# Altium footprint library m.PcbLib: 55 footprints (part 4 of 4)
Each footprint in its own frame and in the unit in brackets; x right, y up, seen from the top. Pads: shape width x height; smd on the part's side, far side on the other; paste and mask are expansions set on the pad; w line width, h text height; cw(c..) or ccw(c..) is an arc to the next point about the centre after c.
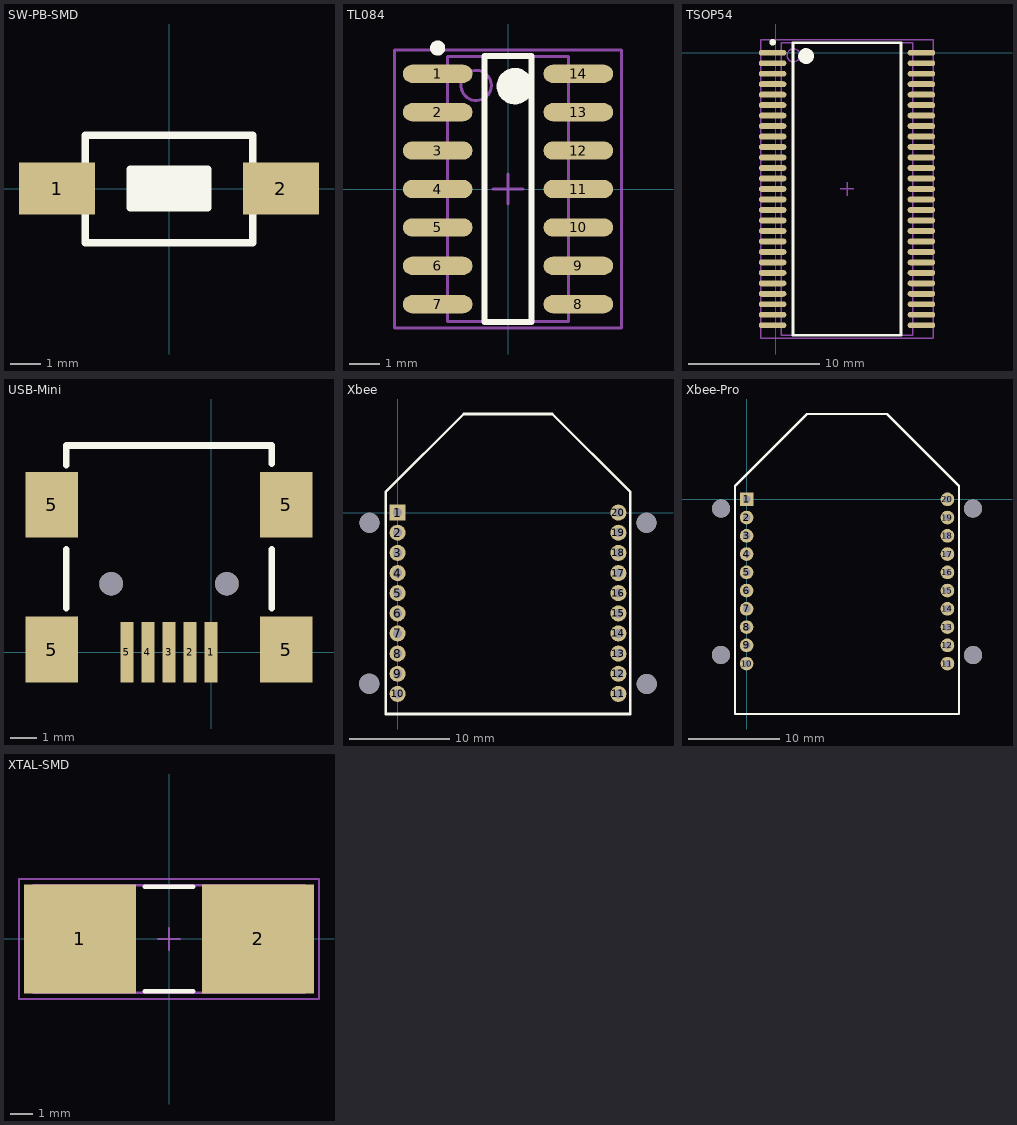
[diagram p3: the footprints below, top view; thin cyan lines are the x and y axes]

## SW-PB-SMD [mm]
pads (2):
  rect 2.5x1.7 smd: 1(-3.683,0) 2(3.683,0)
Top Overlay:
  lines w0.254: -2.75,-1.778 2.75,-1.778 2.75,1.722 ; -2.75,-1.75 -2.75,1.75 2.75,1.75 ; -1.143,-0.508 1.143,-0.508 ; -1.143,-0.254 1.143,-0.254 ; -1.143,0 1.143,0 ; -1.143,0.127 1.27,0.127 ; -1.143,0.381 1.143,0.381 ; -1.27,-0.635 -1.27,0.635 1.27,0.635 1.27,-0.635 -1.27,-0.635

## TL084 [mm] "SOP, 14-Leads, Body 8.8x4.0mm (max), Pitch 1.27mm, IPC Medium Density"
height 2.65
pads (14):
  oval 2.3x0.6 smd: 1(-2.325,3.81) 2(-2.325,2.54) 3(-2.325,1.27) 4(-2.325,0) 5(-2.325,-1.27) 6(-2.325,-2.54) 7(-2.325,-3.81) 8(2.325,-3.81) 9(2.325,-2.54) 10(2.325,-1.27) 11(2.325,0) 12(2.325,1.27) 13(2.325,2.54) 14(2.325,3.81)
Top Overlay:
  circle w0.6: c0.225,3.4 r0.3
  circle w0.25: c-2.325,4.66 r0.125
  lines w0.2: -0.775,-4.4 0.775,-4.4 0.775,4.4 -0.775,4.4 -0.775,-4.4
Mechanical 13:
  circle w0.1: c-1.05,3.425 r0.5
  lines w0.1: -2,-4.375 2,-4.375 2,4.375 -2,4.375 -2,-4.375
Mechanical 15:
  lines w0.1: -0.5,0 0.5,0 ; 0,-0.5 0,0.5 ; -3.75,-4.6 3.75,-4.6 3.75,4.6 -3.75,4.6 -3.75,-4.6
3D body: height 2.65, standoff 0.1, extent -2,-4.375 2,4.375

## TSOP54 [mm] "TSOP, 54-Leads, Body 22.3x10.1mm (max), Pitch 0.80mm, IPC Medium Density"
height 1.5
pads (54):
  oval 2.1x0.45 smd: 1(-0.254,0) 2(-0.254,-0.8) 3(-0.254,-1.6) 4(-0.254,-2.4) 5(-0.254,-3.2) 6(-0.254,-4) 7(-0.254,-4.8) 8(-0.254,-5.6) 9(-0.254,-6.4) 10(-0.254,-7.2) 11(-0.254,-8) 12(-0.254,-8.8) 13(-0.254,-9.6) 14(-0.254,-10.4) 15(-0.254,-11.2) 16(-0.254,-12) 17(-0.254,-12.8) 18(-0.254,-13.6) 19(-0.254,-14.4) 20(-0.254,-15.2) 21(-0.254,-16) 22(-0.254,-16.8) 23(-0.254,-17.6) 24(-0.254,-18.4) 25(-0.254,-19.2) 26(-0.254,-20) 27(-0.254,-20.8) 28(11.104,-20.8) 29(11.104,-20) 30(11.104,-19.2) 31(11.104,-18.4) 32(11.104,-17.6) 33(11.104,-16.8) 34(11.104,-16) 35(11.104,-15.2) 36(11.104,-14.4) 37(11.104,-13.6) 38(11.104,-12.8) 39(11.104,-12) 40(11.104,-11.2) 41(11.104,-10.4) 42(11.104,-9.6) 43(11.104,-8.8) 44(11.104,-8) 45(11.104,-7.2) 46(11.104,-6.4) 47(11.104,-5.6) 48(11.104,-4.8) 49(11.104,-4) 50(11.104,-3.2) 51(11.104,-2.4) 52(11.104,-1.6) 53(11.104,-0.8) 54(11.104,0)
Top Overlay:
  circle w0.25: c-0.254,0.8 r0.125
  circle w0.6: c2.3,-0.25 r0.3
  lines w0.2: 1.3,-21.55 1.3,0.75 9.55,0.75 9.55,-21.55 1.3,-21.55
Mechanical 13:
  circle w0.1: c1.345,-0.195 r0.5
  lines w0.1: 0.395,-21.555 0.395,0.755 10.455,0.755 10.455,-21.555 0.395,-21.555
Mechanical 15:
  lines w0.1: 4.925,-10.4 5.925,-10.4 ; 5.425,-10.9 5.425,-9.9 ; -1.15,-21.8 -1.15,1 12,1 12,-21.8 -1.15,-21.8
3D body: height 1.5, standoff 0.1, extent 0.395,-21.555 10.455,0.755

## USB-Mini [mm]
pads (11):
  rect 0.5x2.3 smd: 1(0,0) 2(-0.8,0) 3(-1.6,0) 4(-2.4,0) 5(-3.2,0)
  rect 2x2.5 smd: 5(-6.05,0.1) 5(-6.05,5.6) 5(2.85,0.1) 5(2.85,5.6)
  round 0.9 hole 0.9 unplated: ""(-3.8,2.6) ""(0.6,2.6)
Top Overlay:
  lines w0.254: -5.5,1.663 -5.5,3.913 ; -5.5,7.113 -5.5,7.85 2.3,7.85 2.3,7.163 ; 2.3,1.663 2.3,3.913
3D body "c-1734035-1-b-3d.stp": height 4.14, standoff -0.95, extent -6.55,-0.738 3.35,8.463

## Xbee [mm]
pads (24):
  rect 1.6x1.6 hole 0.9: 1(0,0)
  round 1.6 hole 0.9: 2(0,-2.007) 3(0,-4.013) 4(0,-6.02) 5(0,-8.026) 6(0,-10.033) 7(0,-12.04) 8(0,-14.046) 9(0,-16.053) 10(0,-18.059) 11(21.996,-18.059) 12(21.996,-16.053) 13(21.996,-14.046) 14(21.996,-12.04) 15(21.996,-10.033) 16(21.996,-8.026) 17(21.996,-6.02) 18(21.996,-4.013) 19(21.996,-2.007) 20(21.996,0)
  round 2 hole 2: ""(-2.819,-17.043) ""(-2.794,-1.016) ""(24.79,-1.016) ""(24.816,-17.069)
Top Overlay:
  lines w0.254: -1.194,-20.059 23.19,-20.059 23.19,2.032 15.405,9.817 6.591,9.817 -1.194,2.032 -1.194,-20.059
3D body: height 6.8, standoff 4, extent -1.194,-20.066 23.216,9.804

## Xbee-Pro [mm]
pads (24):
  rect 1.5x1.5 hole 0.8: 1(0,0)
  round 1.5 hole 0.8: 2(0,-2) 3(0,-4) 4(0,-6) 5(0,-8) 6(0,-10) 7(0,-12) 8(0,-14) 9(0,-16) 10(0,-18) 11(22,-18) 12(22,-16) 13(22,-14) 14(22,-12) 15(22,-10) 16(22,-8) 17(22,-6) 18(22,-4) 19(22,-2) 20(22,0)
  round 2 hole 2: ""(-2.819,-17.043) ""(-2.794,-1.016) ""(24.79,-1.016) ""(24.816,-17.069)
Top Overlay:
  lines w0.254: -1.27,1.473 6.604,9.347 15.418,9.347 ; -1.27,1.5 -1.27,-23.52 23.241,-23.52 ; 15.392,9.347 23.266,1.473 ; 23.266,-23.52 23.266,1.5
3D body: height 6.8, standoff 4, extent -1.295,-23.52 23.241,9.373

## XTAL-SMD [mm] "HC-49US"
height 4.2
pads (2):
  rect 5.1x4.95 smd: 1(-4.05,0) 2(4.05,0)
Top Overlay:
  lines w0.2: -1.1,-2.375 1.1,-2.375 ; -1.1,2.375 1.1,2.375
Mechanical 13:
  lines w0.1: -6.175,-2.45 -6.175,2.45 6.175,2.45 6.175,-2.45 -6.175,-2.45
Mechanical 15:
  lines w0.1: -0.5,0 0.5,0 ; 0,-0.5 0,0.5 ; -6.825,-2.725 -6.825,2.725 6.825,2.725 6.825,-2.725 -6.825,-2.725
3D body: height 4.2, standoff 0, extent -6.175,-2.45 6.175,2.45